# Altium integrated library Renesas Microcontroller H8.IntLib: 489 symbols (part 18 of 25)
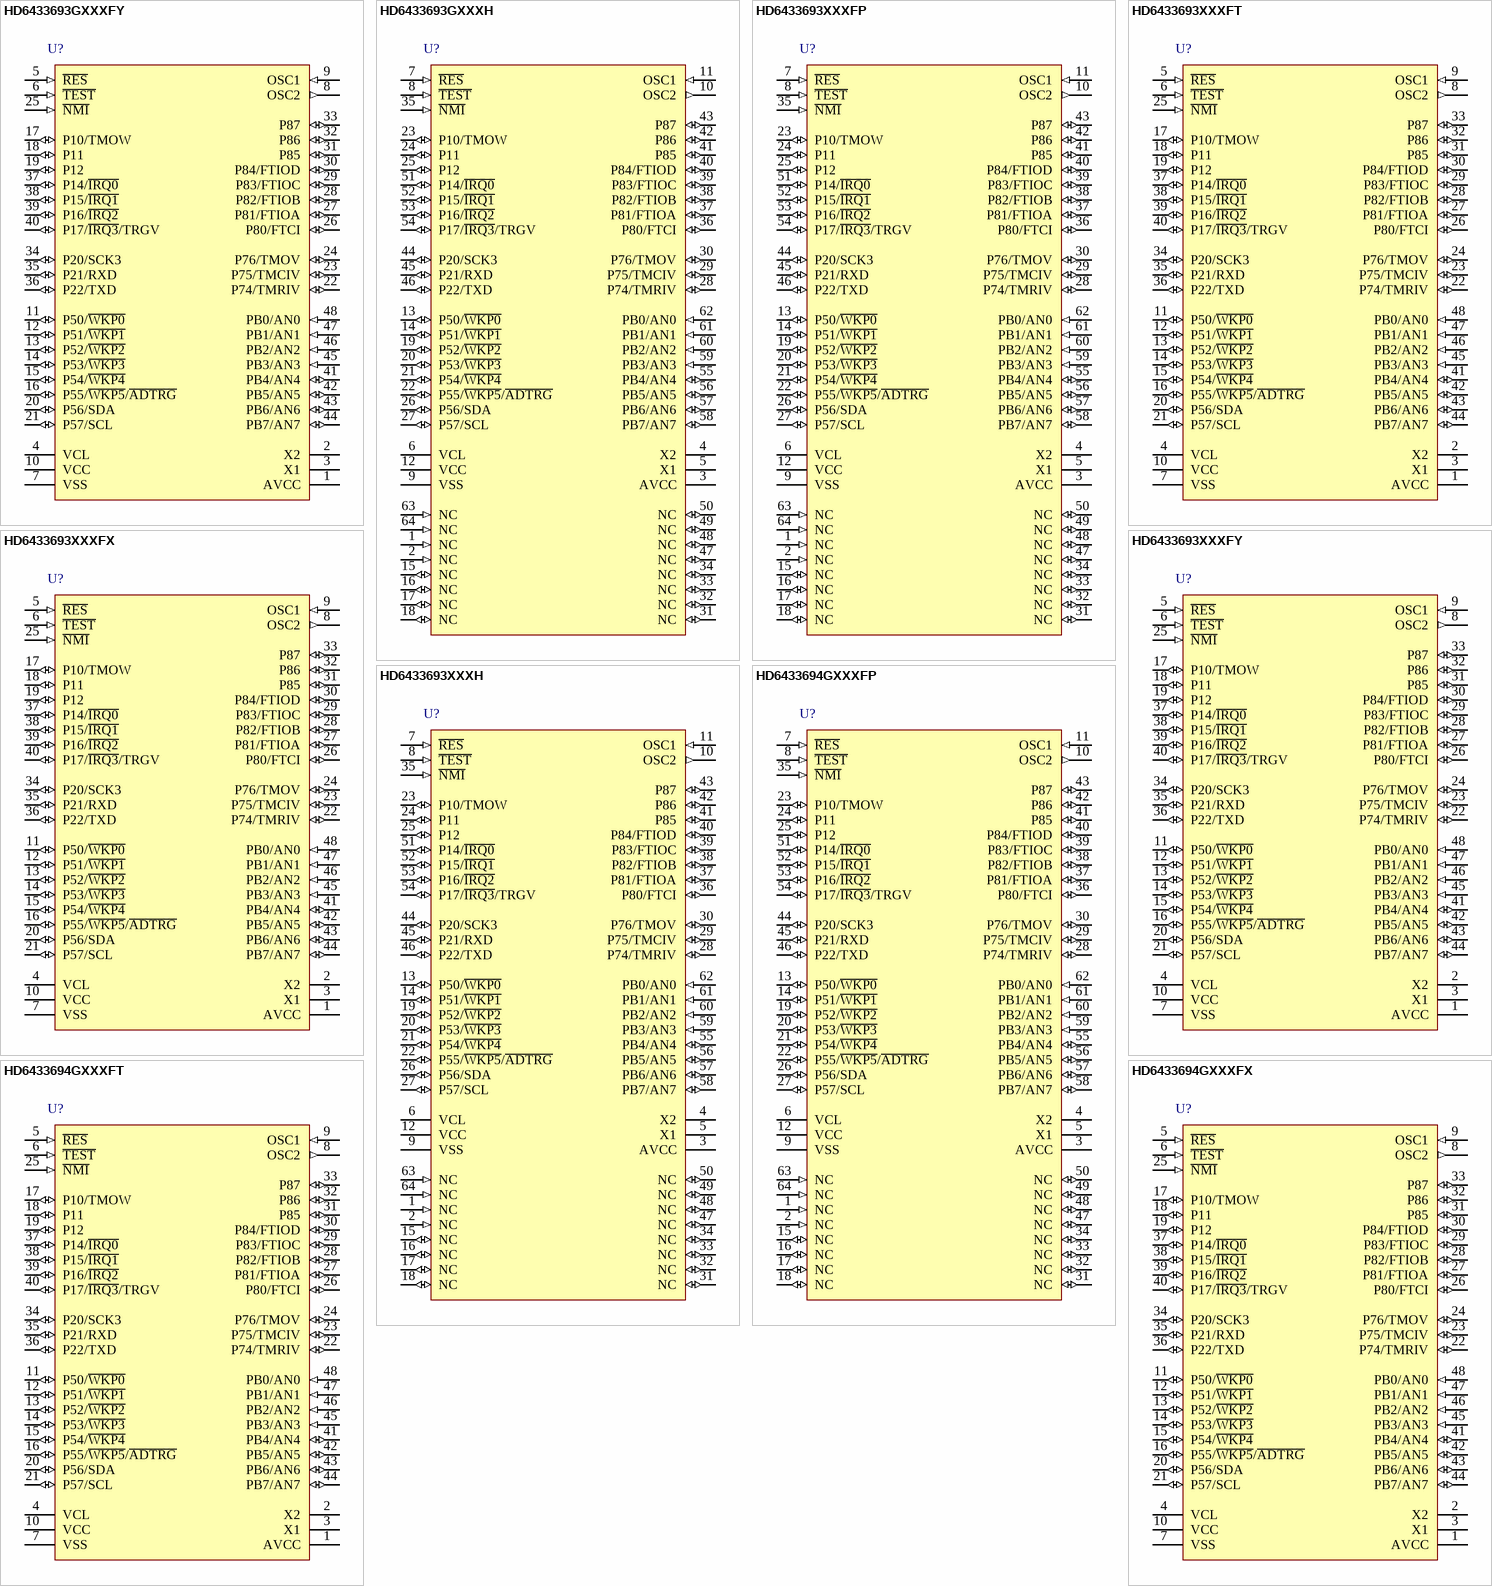
[diagram p105: symbols HD6433693GXXXFY to HD6433694GXXXFX]

## HD6433693GXXXH
designator U?
H8 Family 32/16-bit CISC, H8/300H Tiny, 24K ROM, 1K RAM, 1 to 10MHz, 2.7 to 5.5V, 64-Pin QFP; Published: 28-Aug-2009; DatasheetVersion: Rev.5.00, Nov-2005; PackageVersion: Sep-2005; PackageReference: PRQP0064GB-A; Publisher: Altium Limited; PackageDescription: 64-Pin Plastic Quad Flat Pack, 14 x 14 x 2.7 mm Body, 0.8 mm Pitch; Code_JEITA: P-QFP64-14x14-0.80; ComponentLink1Description: Manufacturer Link; ComponentLink1URL: http://sg.renesas.com/fmwk.jsp?cnt=h8_family_landing.jsp&fp=/products/mpumcu/h8_family/; ComponentLink2Description: Datasheet; ComponentLink2URL: http://documentation.renesas.com/eng/products/mpumcu/rej09b0028_h83694.pdf; ComponentLink3Description: Packaging Specification; ComponentLink3URL: http://sg.renesas.com/media/products/common_info/package/pdf/ic/code/prqp0064gb_a.pdf
footprint PRQP0064GB-A_N (QFP, 64-Leads, Body 14x14mm, Pitch 0.8mm, IPC Medium Density)
footprint PRQP0064GB-A_L (QFP, 64-Leads, Body 14x14mm, Pitch 0.8mm, IPC High Density)
footprint PRQP0064GB-A_M (QFP, 64-Leads, Body 14x14mm, Pitch 0.8mm, IPC Low Density)
pins: 1 NC (in), 2 NC (in), 3 AVCC (power), 4 X2, 5 X1, 6 VCL (power), 7 ~{RES} (in), 8 ~{TEST} (in), 9 VSS (power), 10 OSC2 (out), 11 OSC1 (in), 12 VCC (power), 13 P50/~{WKP0} (io), 14 P51/~{WKP1} (io), 15 NC (io), 16 NC (io), 17 NC (io), 18 NC (io), 19 P52/~{WKP2} (io), 20 P53/~{WKP3} (io), 21 P54/~{WKP4} (io), 22 P55/~{WKP5}/~{ADTRG} (io), 23 P10/TMOW (io), 24 P11 (io), 25 P12 (io), 26 P56/SDA (io), 27 P57/SCL (io), 28 P74/TMRIV (io), 29 P75/TMCIV (io), 30 P76/TMOV (io), 31 NC (io), 32 NC (io), 33 NC (io), 34 NC (io), 35 ~{NMI} (in), 36 P80/FTCI (io), 37 P81/FTIOA (io), 38 P82/FTIOB (io), 39 P83/FTIOC (io), 40 P84/FTIOD (io), 41 P85 (io), 42 P86 (io), 43 P87 (io), 44 P20/SCK3 (io), 45 P21/RXD (io), 46 P22/TXD (io), 47 NC (io), 48 NC (io), 49 NC (io), 50 NC (io), 51 P14/~{IRQ0} (io), 52 P15/~{IRQ1} (io), 53 P16/~{IRQ2} (io), 54 P17/~{IRQ3}/TRGV (io), 55 PB4/AN4 (io), 56 PB5/AN5 (io), 57 PB6/AN6 (io), 58 PB7/AN7 (io), 59 PB3/AN3 (in), 60 PB2/AN2 (in), 61 PB1/AN1 (in), 62 PB0/AN0 (in), 63 NC (in), 64 NC (in)

## HD6433693XXXFP
designator U?
H8 Family 32/16-bit CISC, H8/300H Tiny, 24K ROM, 1K RAM, 1 to 10MHz, 2.7 to 5.5V, 64-Pin QFP; Published: 28-Aug-2009; DatasheetVersion: Rev.5.00, Nov-2005; PackageVersion: Sep-2005; PackageReference: PLQP0064KC-A; Publisher: Altium Limited; PackageDescription: 64-Pin Plastic Low Profile QFP, 10 x 10 x 1.45 mm Body, 0.5 mm Pitch; Code_JEITA: P-LQFP64-10x10-0.50; Code_IPC: SQFP50P1200X1200-64; ComponentLink1Description: Manufacturer Link; ComponentLink1URL: http://sg.renesas.com/fmwk.jsp?cnt=h8_family_landing.jsp&fp=/products/mpumcu/h8_family/; ComponentLink2Description: Datasheet; ComponentLink2URL: http://documentation.renesas.com/eng/products/mpumcu/rej09b0028_h83694.pdf; ComponentLink3Description: Packaging Specification; ComponentLink3URL: http://sg.renesas.com/media/products/common_info/package/pdf/ic/code/plqp0064kc_a.pdf
footprint PLQP0064KC-A_N (Shrink QFP, 64-Leads, Body 10x10mm, Pitch 0.5mm, IPC Medium Density)
footprint PLQP0064KC-A_L (Shrink QFP, 64-Leads, Body 10x10mm, Pitch 0.5mm, IPC High Density)
footprint PLQP0064KC-A_M (Shrink QFP, 64-Leads, Body 10x10mm, Pitch 0.5mm, IPC Low Density)
pins: 1 NC (in), 2 NC (in), 3 AVCC (power), 4 X2, 5 X1, 6 VCL (power), 7 ~{RES} (in), 8 ~{TEST} (in), 9 VSS (power), 10 OSC2 (out), 11 OSC1 (in), 12 VCC (power), 13 P50/~{WKP0} (io), 14 P51/~{WKP1} (io), 15 NC (io), 16 NC (io), 17 NC (io), 18 NC (io), 19 P52/~{WKP2} (io), 20 P53/~{WKP3} (io), 21 P54/~{WKP4} (io), 22 P55/~{WKP5}/~{ADTRG} (io), 23 P10/TMOW (io), 24 P11 (io), 25 P12 (io), 26 P56/SDA (io), 27 P57/SCL (io), 28 P74/TMRIV (io), 29 P75/TMCIV (io), 30 P76/TMOV (io), 31 NC (io), 32 NC (io), 33 NC (io), 34 NC (io), 35 ~{NMI} (in), 36 P80/FTCI (io), 37 P81/FTIOA (io), 38 P82/FTIOB (io), 39 P83/FTIOC (io), 40 P84/FTIOD (io), 41 P85 (io), 42 P86 (io), 43 P87 (io), 44 P20/SCK3 (io), 45 P21/RXD (io), 46 P22/TXD (io), 47 NC (io), 48 NC (io), 49 NC (io), 50 NC (io), 51 P14/~{IRQ0} (io), 52 P15/~{IRQ1} (io), 53 P16/~{IRQ2} (io), 54 P17/~{IRQ3}/TRGV (io), 55 PB4/AN4 (io), 56 PB5/AN5 (io), 57 PB6/AN6 (io), 58 PB7/AN7 (io), 59 PB3/AN3 (in), 60 PB2/AN2 (in), 61 PB1/AN1 (in), 62 PB0/AN0 (in), 63 NC (in), 64 NC (in)

## HD6433693XXXFT
designator U?
H8 Family 32/16-bit CISC, H8/300H Tiny, 24K ROM, 1K RAM, 1 to 10MHz, 2.7 to 5.5V, 48-Pin QFN; Published: 28-Aug-2009; DatasheetVersion: Rev.5.00, Nov-2005; PackageVersion: Sep-2005; PackageReference: PVQN0048KA-A; Publisher: Altium Limited; PackageDescription: 48-Pin Plastic Very Thin QFN, 7 x 7 X 0.9 mm Body, 0.5 mm Pitch; Code_JEITA: P-VQFN48-7x7-0.50; ComponentLink1Description: Manufacturer Link; ComponentLink1URL: http://sg.renesas.com/fmwk.jsp?cnt=h8_family_landing.jsp&fp=/products/mpumcu/h8_family/; ComponentLink2Description: Datasheet; ComponentLink2URL: http://documentation.renesas.com/eng/products/mpumcu/rej09b0028_h83694.pdf; ComponentLink3Description: Packaging Specification; ComponentLink3URL: http://sg.renesas.com/media/products/common_info/package/pdf/ic/code/pvqn0048ka_a.pdf
footprint PVQN0048KA-A_N (QFN, 48-Leads, Body 7x7mm, Pitch 0.5mm, IPC Medium Density)
footprint PVQN0048KA-A_L (QFN, 48-Leads, Body 7x7mm, Pitch 0.5mm, IPC High Density)
footprint PVQN0048KA-A_M (QFN, 48-Leads, Body 7x7mm, Pitch 0.5mm, IPC Low Density)
pins: 1 AVCC (power), 2 X2, 3 X1, 4 VCL (power), 5 ~{RES} (in), 6 ~{TEST} (in), 7 VSS (power), 8 OSC2 (out), 9 OSC1 (in), 10 VCC (power), 11 P50/~{WKP0} (io), 12 P51/~{WKP1} (io), 13 P52/~{WKP2} (io), 14 P53/~{WKP3} (io), 15 P54/~{WKP4} (io), 16 P55/~{WKP5}/~{ADTRG} (io), 17 P10/TMOW (io), 18 P11 (io), 19 P12 (io), 20 P56/SDA (io), 21 P57/SCL (io), 22 P74/TMRIV (io), 23 P75/TMCIV (io), 24 P76/TMOV (io), 25 ~{NMI} (in), 26 P80/FTCI (io), 27 P81/FTIOA (io), 28 P82/FTIOB (io), 29 P83/FTIOC (io), 30 P84/FTIOD (io), 31 P85 (io), 32 P86 (io), 33 P87 (io), 34 P20/SCK3 (io), 35 P21/RXD (io), 36 P22/TXD (io), 37 P14/~{IRQ0} (io), 38 P15/~{IRQ1} (io), 39 P16/~{IRQ2} (io), 40 P17/~{IRQ3}/TRGV (io), 41 PB4/AN4 (io), 42 PB5/AN5 (io), 43 PB6/AN6 (io), 44 PB7/AN7 (io), 45 PB3/AN3 (in), 46 PB2/AN2 (in), 47 PB1/AN1 (in), 48 PB0/AN0 (in)

## HD6433693XXXFX
designator U?
H8 Family 32/16-bit CISC, H8/300H Tiny, 24K ROM, 1K RAM, 1 to 10MHz, 2.7 to 5.5V, 48-Pin QFP; Published: 28-Aug-2009; DatasheetVersion: Rev.5.00, Nov-2005; PackageVersion: Sep-2005; PackageReference: PLQP0048JA-A; Publisher: Altium Limited; PackageDescription: 48-Pin Plastic Low Profile QFP, 10 x 10 x 1.45 mm Body, 0.65 mm Pitch; Code_JEITA: P-LQFP48-10x10-0.65; ComponentLink1Description: Manufacturer Link; ComponentLink1URL: http://sg.renesas.com/fmwk.jsp?cnt=h8_family_landing.jsp&fp=/products/mpumcu/h8_family/; ComponentLink2Description: Datasheet; ComponentLink2URL: http://documentation.renesas.com/eng/products/mpumcu/rej09b0028_h83694.pdf; ComponentLink3Description: Packaging Specification; ComponentLink3URL: http://sg.renesas.com/media/products/common_info/package/pdf/ic/code/plqp0048ja_a.pdf
footprint PLQP0048JA-A_N (QFP, 48-Leads, Body 10x10mm, Pitch 0.65mm, IPC Medium Density)
footprint PLQP0048JA-A_L (QFP, 48-Leads, Body 10x10mm, Pitch 0.65mm, IPC High Density)
footprint PLQP0048JA-A_M (QFP, 48-Leads, Body 10x10mm, Pitch 0.65mm, IPC Low Density)
pins: 1 AVCC (power), 2 X2, 3 X1, 4 VCL (power), 5 ~{RES} (in), 6 ~{TEST} (in), 7 VSS (power), 8 OSC2 (out), 9 OSC1 (in), 10 VCC (power), 11 P50/~{WKP0} (io), 12 P51/~{WKP1} (io), 13 P52/~{WKP2} (io), 14 P53/~{WKP3} (io), 15 P54/~{WKP4} (io), 16 P55/~{WKP5}/~{ADTRG} (io), 17 P10/TMOW (io), 18 P11 (io), 19 P12 (io), 20 P56/SDA (io), 21 P57/SCL (io), 22 P74/TMRIV (io), 23 P75/TMCIV (io), 24 P76/TMOV (io), 25 ~{NMI} (in), 26 P80/FTCI (io), 27 P81/FTIOA (io), 28 P82/FTIOB (io), 29 P83/FTIOC (io), 30 P84/FTIOD (io), 31 P85 (io), 32 P86 (io), 33 P87 (io), 34 P20/SCK3 (io), 35 P21/RXD (io), 36 P22/TXD (io), 37 P14/~{IRQ0} (io), 38 P15/~{IRQ1} (io), 39 P16/~{IRQ2} (io), 40 P17/~{IRQ3}/TRGV (io), 41 PB4/AN4 (io), 42 PB5/AN5 (io), 43 PB6/AN6 (io), 44 PB7/AN7 (io), 45 PB3/AN3 (in), 46 PB2/AN2 (in), 47 PB1/AN1 (in), 48 PB0/AN0 (in)

## HD6433693XXXFY
designator U?
H8 Family 32/16-bit CISC, H8/300H Tiny, 24K ROM, 1K RAM, 1 to 10MHz, 2.7 to 5.5V, 48-Pin QFP; Published: 28-Aug-2009; DatasheetVersion: Rev.5.00, Nov-2005; PackageVersion: Sep-2005; PackageReference: PLQP0048KC-A; Publisher: Altium Limited; PackageDescription: 48-Pin Plastic Low Profile QFP, 7 x 7 x 1.4 mm Body, 0.5 mm Pitch; Code_JEITA: P-LQFP48-7x7-0.50; Code_IPC: SQFP50P900X900-48; ComponentLink1Description: Manufacturer Link; ComponentLink1URL: http://sg.renesas.com/fmwk.jsp?cnt=h8_family_landing.jsp&fp=/products/mpumcu/h8_family/; ComponentLink2Description: Datasheet; ComponentLink2URL: http://documentation.renesas.com/eng/products/mpumcu/rej09b0028_h83694.pdf; ComponentLink3Description: Packaging Specification; ComponentLink3URL: http://sg.renesas.com/media/products/common_info/package/pdf/ic/code/plqp0048kc_a.pdf
footprint PLQP0048KC-A_N (Shrink QFP, 48-Leads, Body 7x7mm, Pitch 0.5mm, IPC Medium Density)
footprint PLQP0048KC-A_L (Shrink QFP, 48-Leads, Body 7x7mm, Pitch 0.5mm, IPC High Density)
footprint PLQP0048KC-A_M (Shrink QFP, 48-Leads, Body 7x7mm, Pitch 0.5mm, IPC Low Density)
pins: 1 AVCC (power), 2 X2, 3 X1, 4 VCL (power), 5 ~{RES} (in), 6 ~{TEST} (in), 7 VSS (power), 8 OSC2 (out), 9 OSC1 (in), 10 VCC (power), 11 P50/~{WKP0} (io), 12 P51/~{WKP1} (io), 13 P52/~{WKP2} (io), 14 P53/~{WKP3} (io), 15 P54/~{WKP4} (io), 16 P55/~{WKP5}/~{ADTRG} (io), 17 P10/TMOW (io), 18 P11 (io), 19 P12 (io), 20 P56/SDA (io), 21 P57/SCL (io), 22 P74/TMRIV (io), 23 P75/TMCIV (io), 24 P76/TMOV (io), 25 ~{NMI} (in), 26 P80/FTCI (io), 27 P81/FTIOA (io), 28 P82/FTIOB (io), 29 P83/FTIOC (io), 30 P84/FTIOD (io), 31 P85 (io), 32 P86 (io), 33 P87 (io), 34 P20/SCK3 (io), 35 P21/RXD (io), 36 P22/TXD (io), 37 P14/~{IRQ0} (io), 38 P15/~{IRQ1} (io), 39 P16/~{IRQ2} (io), 40 P17/~{IRQ3}/TRGV (io), 41 PB4/AN4 (io), 42 PB5/AN5 (io), 43 PB6/AN6 (io), 44 PB7/AN7 (io), 45 PB3/AN3 (in), 46 PB2/AN2 (in), 47 PB1/AN1 (in), 48 PB0/AN0 (in)

## HD6433693XXXH
designator U?
H8 Family 32/16-bit CISC, H8/300H Tiny, 24K ROM, 1K RAM, 1 to 10MHz, 2.7 to 5.5V, 64-Pin QFP; Published: 28-Aug-2009; DatasheetVersion: Rev.5.00, Nov-2005; PackageVersion: Sep-2005; PackageReference: PRQP0064GB-A; Publisher: Altium Limited; PackageDescription: 64-Pin Plastic Quad Flat Pack, 14 x 14 x 2.7 mm Body, 0.8 mm Pitch; Code_JEITA: P-QFP64-14x14-0.80; ComponentLink1Description: Manufacturer Link; ComponentLink1URL: http://sg.renesas.com/fmwk.jsp?cnt=h8_family_landing.jsp&fp=/products/mpumcu/h8_family/; ComponentLink2Description: Datasheet; ComponentLink2URL: http://documentation.renesas.com/eng/products/mpumcu/rej09b0028_h83694.pdf; ComponentLink3Description: Packaging Specification; ComponentLink3URL: http://sg.renesas.com/media/products/common_info/package/pdf/ic/code/prqp0064gb_a.pdf
footprint PRQP0064GB-A_N (QFP, 64-Leads, Body 14x14mm, Pitch 0.8mm, IPC Medium Density)
footprint PRQP0064GB-A_L (QFP, 64-Leads, Body 14x14mm, Pitch 0.8mm, IPC High Density)
footprint PRQP0064GB-A_M (QFP, 64-Leads, Body 14x14mm, Pitch 0.8mm, IPC Low Density)
pins: 1 NC (in), 2 NC (in), 3 AVCC (power), 4 X2, 5 X1, 6 VCL (power), 7 ~{RES} (in), 8 ~{TEST} (in), 9 VSS (power), 10 OSC2 (out), 11 OSC1 (in), 12 VCC (power), 13 P50/~{WKP0} (io), 14 P51/~{WKP1} (io), 15 NC (io), 16 NC (io), 17 NC (io), 18 NC (io), 19 P52/~{WKP2} (io), 20 P53/~{WKP3} (io), 21 P54/~{WKP4} (io), 22 P55/~{WKP5}/~{ADTRG} (io), 23 P10/TMOW (io), 24 P11 (io), 25 P12 (io), 26 P56/SDA (io), 27 P57/SCL (io), 28 P74/TMRIV (io), 29 P75/TMCIV (io), 30 P76/TMOV (io), 31 NC (io), 32 NC (io), 33 NC (io), 34 NC (io), 35 ~{NMI} (in), 36 P80/FTCI (io), 37 P81/FTIOA (io), 38 P82/FTIOB (io), 39 P83/FTIOC (io), 40 P84/FTIOD (io), 41 P85 (io), 42 P86 (io), 43 P87 (io), 44 P20/SCK3 (io), 45 P21/RXD (io), 46 P22/TXD (io), 47 NC (io), 48 NC (io), 49 NC (io), 50 NC (io), 51 P14/~{IRQ0} (io), 52 P15/~{IRQ1} (io), 53 P16/~{IRQ2} (io), 54 P17/~{IRQ3}/TRGV (io), 55 PB4/AN4 (io), 56 PB5/AN5 (io), 57 PB6/AN6 (io), 58 PB7/AN7 (io), 59 PB3/AN3 (in), 60 PB2/AN2 (in), 61 PB1/AN1 (in), 62 PB0/AN0 (in), 63 NC (in), 64 NC (in)

## HD6433694GXXXFP
designator U?
H8 Family 32/16-bit CISC, H8/300H Tiny, 32K ROM, 1K RAM, 1 to 10MHz, 2.7 to 5.5V, 64-Pin QFP; Published: 28-Aug-2009; DatasheetVersion: Rev.5.00, Nov-2005; PackageVersion: Sep-2005; PackageReference: PLQP0064KC-A; Publisher: Altium Limited; PackageDescription: 64-Pin Plastic Low Profile QFP, 10 x 10 x 1.45 mm Body, 0.5 mm Pitch; Code_JEITA: P-LQFP64-10x10-0.50; Code_IPC: SQFP50P1200X1200-64; ComponentLink1Description: Manufacturer Link; ComponentLink1URL: http://sg.renesas.com/fmwk.jsp?cnt=h8_family_landing.jsp&fp=/products/mpumcu/h8_family/; ComponentLink2Description: Datasheet; ComponentLink2URL: http://documentation.renesas.com/eng/products/mpumcu/rej09b0028_h83694.pdf; ComponentLink3Description: Packaging Specification; ComponentLink3URL: http://sg.renesas.com/media/products/common_info/package/pdf/ic/code/plqp0064kc_a.pdf
footprint PLQP0064KC-A_N (Shrink QFP, 64-Leads, Body 10x10mm, Pitch 0.5mm, IPC Medium Density)
footprint PLQP0064KC-A_L (Shrink QFP, 64-Leads, Body 10x10mm, Pitch 0.5mm, IPC High Density)
footprint PLQP0064KC-A_M (Shrink QFP, 64-Leads, Body 10x10mm, Pitch 0.5mm, IPC Low Density)
pins: 1 NC (in), 2 NC (in), 3 AVCC (power), 4 X2, 5 X1, 6 VCL (power), 7 ~{RES} (in), 8 ~{TEST} (in), 9 VSS (power), 10 OSC2 (out), 11 OSC1 (in), 12 VCC (power), 13 P50/~{WKP0} (io), 14 P51/~{WKP1} (io), 15 NC (io), 16 NC (io), 17 NC (io), 18 NC (io), 19 P52/~{WKP2} (io), 20 P53/~{WKP3} (io), 21 P54/~{WKP4} (io), 22 P55/~{WKP5}/~{ADTRG} (io), 23 P10/TMOW (io), 24 P11 (io), 25 P12 (io), 26 P56/SDA (io), 27 P57/SCL (io), 28 P74/TMRIV (io), 29 P75/TMCIV (io), 30 P76/TMOV (io), 31 NC (io), 32 NC (io), 33 NC (io), 34 NC (io), 35 ~{NMI} (in), 36 P80/FTCI (io), 37 P81/FTIOA (io), 38 P82/FTIOB (io), 39 P83/FTIOC (io), 40 P84/FTIOD (io), 41 P85 (io), 42 P86 (io), 43 P87 (io), 44 P20/SCK3 (io), 45 P21/RXD (io), 46 P22/TXD (io), 47 NC (io), 48 NC (io), 49 NC (io), 50 NC (io), 51 P14/~{IRQ0} (io), 52 P15/~{IRQ1} (io), 53 P16/~{IRQ2} (io), 54 P17/~{IRQ3}/TRGV (io), 55 PB4/AN4 (io), 56 PB5/AN5 (io), 57 PB6/AN6 (io), 58 PB7/AN7 (io), 59 PB3/AN3 (in), 60 PB2/AN2 (in), 61 PB1/AN1 (in), 62 PB0/AN0 (in), 63 NC (in), 64 NC (in)

## HD6433694GXXXFT
designator U?
H8 Family 32/16-bit CISC, H8/300H Tiny, 32K ROM, 1K RAM, 1 to 10MHz, 2.7 to 5.5V, 48-Pin QFN; Published: 28-Aug-2009; DatasheetVersion: Rev.5.00, Nov-2005; PackageVersion: Sep-2005; PackageReference: PVQN0048KA-A; Publisher: Altium Limited; PackageDescription: 48-Pin Plastic Very Thin QFN, 7 x 7 X 0.9 mm Body, 0.5 mm Pitch; Code_JEITA: P-VQFN48-7x7-0.50; ComponentLink1Description: Manufacturer Link; ComponentLink1URL: http://sg.renesas.com/fmwk.jsp?cnt=h8_family_landing.jsp&fp=/products/mpumcu/h8_family/; ComponentLink2Description: Datasheet; ComponentLink2URL: http://documentation.renesas.com/eng/products/mpumcu/rej09b0028_h83694.pdf; ComponentLink3Description: Packaging Specification; ComponentLink3URL: http://sg.renesas.com/media/products/common_info/package/pdf/ic/code/pvqn0048ka_a.pdf
footprint PVQN0048KA-A_N (QFN, 48-Leads, Body 7x7mm, Pitch 0.5mm, IPC Medium Density)
footprint PVQN0048KA-A_L (QFN, 48-Leads, Body 7x7mm, Pitch 0.5mm, IPC High Density)
footprint PVQN0048KA-A_M (QFN, 48-Leads, Body 7x7mm, Pitch 0.5mm, IPC Low Density)
pins: 1 AVCC (power), 2 X2, 3 X1, 4 VCL (power), 5 ~{RES} (in), 6 ~{TEST} (in), 7 VSS (power), 8 OSC2 (out), 9 OSC1 (in), 10 VCC (power), 11 P50/~{WKP0} (io), 12 P51/~{WKP1} (io), 13 P52/~{WKP2} (io), 14 P53/~{WKP3} (io), 15 P54/~{WKP4} (io), 16 P55/~{WKP5}/~{ADTRG} (io), 17 P10/TMOW (io), 18 P11 (io), 19 P12 (io), 20 P56/SDA (io), 21 P57/SCL (io), 22 P74/TMRIV (io), 23 P75/TMCIV (io), 24 P76/TMOV (io), 25 ~{NMI} (in), 26 P80/FTCI (io), 27 P81/FTIOA (io), 28 P82/FTIOB (io), 29 P83/FTIOC (io), 30 P84/FTIOD (io), 31 P85 (io), 32 P86 (io), 33 P87 (io), 34 P20/SCK3 (io), 35 P21/RXD (io), 36 P22/TXD (io), 37 P14/~{IRQ0} (io), 38 P15/~{IRQ1} (io), 39 P16/~{IRQ2} (io), 40 P17/~{IRQ3}/TRGV (io), 41 PB4/AN4 (io), 42 PB5/AN5 (io), 43 PB6/AN6 (io), 44 PB7/AN7 (io), 45 PB3/AN3 (in), 46 PB2/AN2 (in), 47 PB1/AN1 (in), 48 PB0/AN0 (in)

## HD6433694GXXXFX
designator U?
H8 Family 32/16-bit CISC, H8/300H Tiny, 32K ROM, 1K RAM, 1 to 10MHz, 2.7 to 5.5V, 48-Pin QFP; Published: 28-Aug-2009; DatasheetVersion: Rev.5.00, Nov-2005; PackageVersion: Sep-2005; PackageReference: PLQP0048JA-A; Publisher: Altium Limited; PackageDescription: 48-Pin Plastic Low Profile QFP, 10 x 10 x 1.45 mm Body, 0.65 mm Pitch; Code_JEITA: P-LQFP48-10x10-0.65; ComponentLink1Description: Manufacturer Link; ComponentLink1URL: http://sg.renesas.com/fmwk.jsp?cnt=h8_family_landing.jsp&fp=/products/mpumcu/h8_family/; ComponentLink2Description: Datasheet; ComponentLink2URL: http://documentation.renesas.com/eng/products/mpumcu/rej09b0028_h83694.pdf; ComponentLink3Description: Packaging Specification; ComponentLink3URL: http://sg.renesas.com/media/products/common_info/package/pdf/ic/code/plqp0048ja_a.pdf
footprint PLQP0048JA-A_N (QFP, 48-Leads, Body 10x10mm, Pitch 0.65mm, IPC Medium Density)
footprint PLQP0048JA-A_L (QFP, 48-Leads, Body 10x10mm, Pitch 0.65mm, IPC High Density)
footprint PLQP0048JA-A_M (QFP, 48-Leads, Body 10x10mm, Pitch 0.65mm, IPC Low Density)
pins: 1 AVCC (power), 2 X2, 3 X1, 4 VCL (power), 5 ~{RES} (in), 6 ~{TEST} (in), 7 VSS (power), 8 OSC2 (out), 9 OSC1 (in), 10 VCC (power), 11 P50/~{WKP0} (io), 12 P51/~{WKP1} (io), 13 P52/~{WKP2} (io), 14 P53/~{WKP3} (io), 15 P54/~{WKP4} (io), 16 P55/~{WKP5}/~{ADTRG} (io), 17 P10/TMOW (io), 18 P11 (io), 19 P12 (io), 20 P56/SDA (io), 21 P57/SCL (io), 22 P74/TMRIV (io), 23 P75/TMCIV (io), 24 P76/TMOV (io), 25 ~{NMI} (in), 26 P80/FTCI (io), 27 P81/FTIOA (io), 28 P82/FTIOB (io), 29 P83/FTIOC (io), 30 P84/FTIOD (io), 31 P85 (io), 32 P86 (io), 33 P87 (io), 34 P20/SCK3 (io), 35 P21/RXD (io), 36 P22/TXD (io), 37 P14/~{IRQ0} (io), 38 P15/~{IRQ1} (io), 39 P16/~{IRQ2} (io), 40 P17/~{IRQ3}/TRGV (io), 41 PB4/AN4 (io), 42 PB5/AN5 (io), 43 PB6/AN6 (io), 44 PB7/AN7 (io), 45 PB3/AN3 (in), 46 PB2/AN2 (in), 47 PB1/AN1 (in), 48 PB0/AN0 (in)

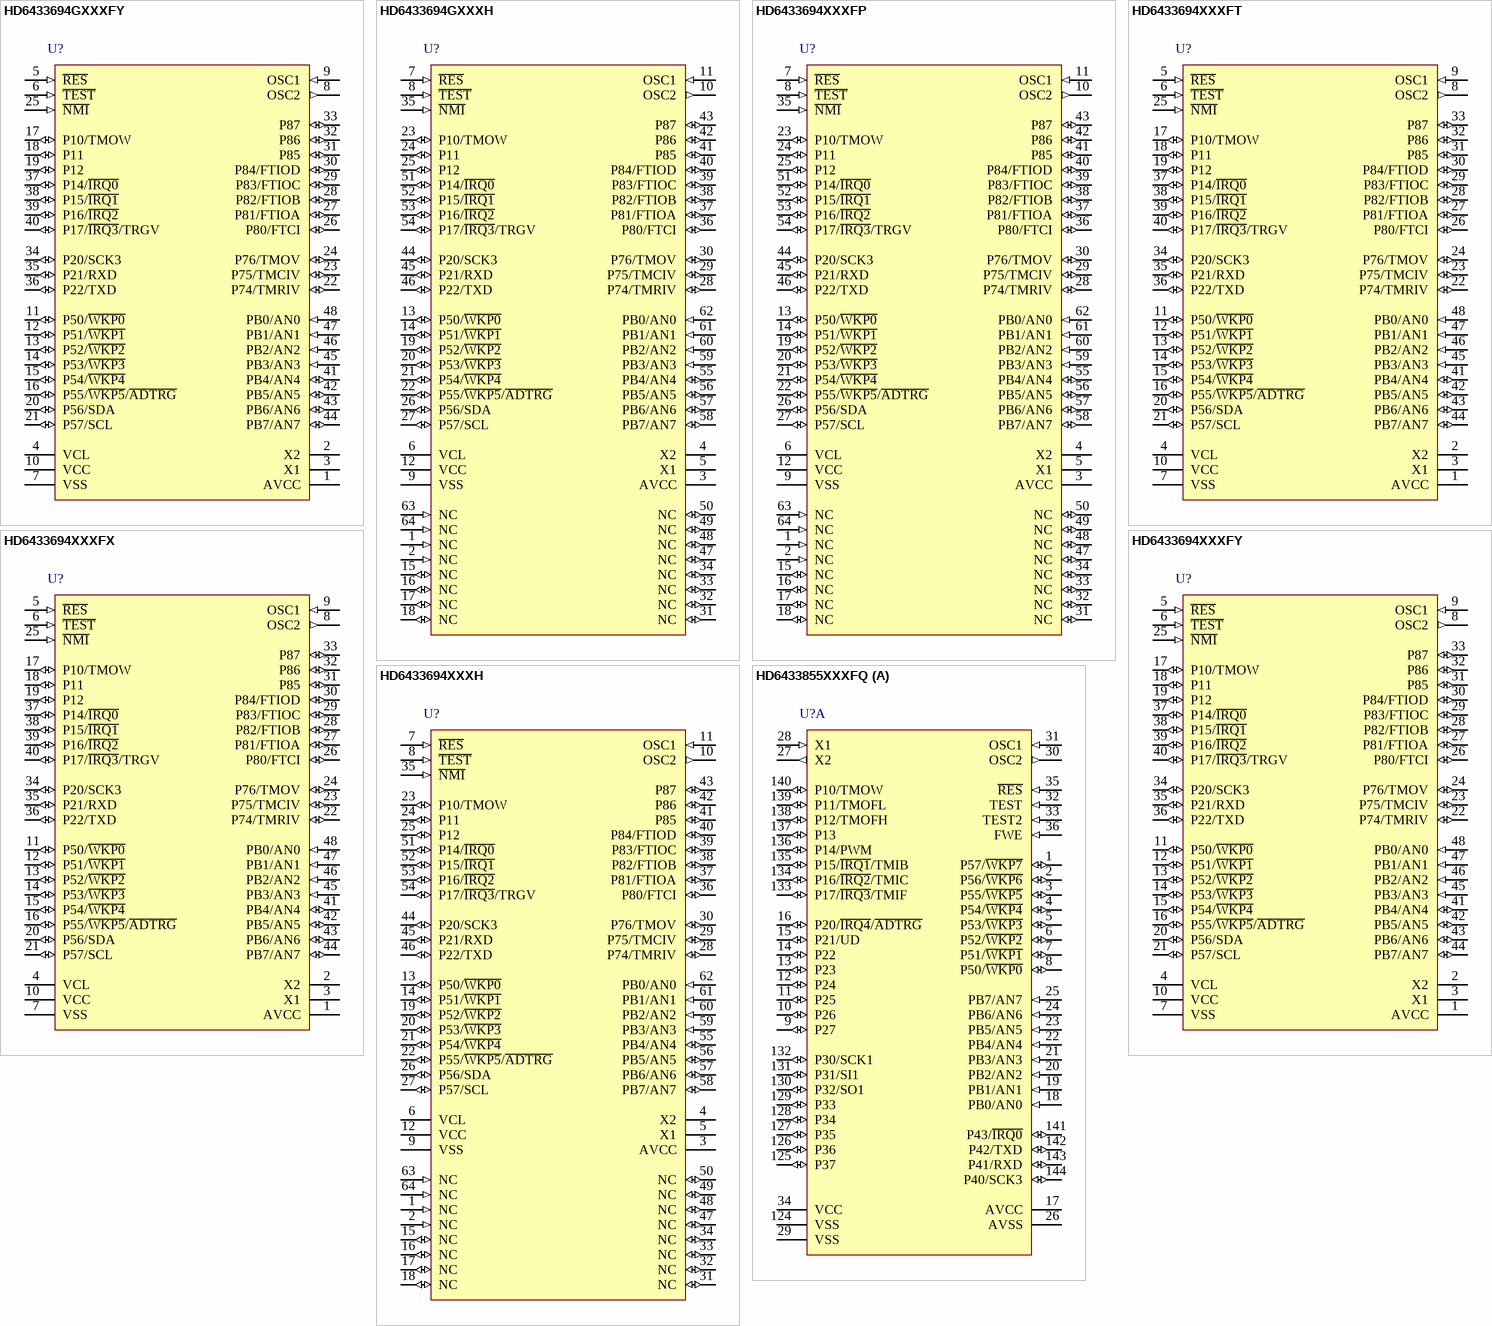
[diagram p63: symbols HD6433694GXXXFY to HD6433855XXXFQ]

## HD6433694GXXXFY
designator U?
H8 Family 32/16-bit CISC, H8/300H Tiny, 32K ROM, 1K RAM, 1 to 10MHz, 2.7 to 5.5V, 48-Pin QFP; Published: 28-Aug-2009; DatasheetVersion: Rev.5.00, Nov-2005; PackageVersion: Sep-2005; PackageReference: PLQP0048KC-A; Publisher: Altium Limited; PackageDescription: 48-Pin Plastic Low Profile QFP, 7 x 7 x 1.4 mm Body, 0.5 mm Pitch; Code_JEITA: P-LQFP48-7x7-0.50; Code_IPC: SQFP50P900X900-48; ComponentLink1Description: Manufacturer Link; ComponentLink1URL: http://sg.renesas.com/fmwk.jsp?cnt=h8_family_landing.jsp&fp=/products/mpumcu/h8_family/; ComponentLink2Description: Datasheet; ComponentLink2URL: http://documentation.renesas.com/eng/products/mpumcu/rej09b0028_h83694.pdf; ComponentLink3Description: Packaging Specification; ComponentLink3URL: http://sg.renesas.com/media/products/common_info/package/pdf/ic/code/plqp0048kc_a.pdf
footprint PLQP0048KC-A_N (Shrink QFP, 48-Leads, Body 7x7mm, Pitch 0.5mm, IPC Medium Density)
footprint PLQP0048KC-A_L (Shrink QFP, 48-Leads, Body 7x7mm, Pitch 0.5mm, IPC High Density)
footprint PLQP0048KC-A_M (Shrink QFP, 48-Leads, Body 7x7mm, Pitch 0.5mm, IPC Low Density)
pins: 1 AVCC (power), 2 X2, 3 X1, 4 VCL (power), 5 ~{RES} (in), 6 ~{TEST} (in), 7 VSS (power), 8 OSC2 (out), 9 OSC1 (in), 10 VCC (power), 11 P50/~{WKP0} (io), 12 P51/~{WKP1} (io), 13 P52/~{WKP2} (io), 14 P53/~{WKP3} (io), 15 P54/~{WKP4} (io), 16 P55/~{WKP5}/~{ADTRG} (io), 17 P10/TMOW (io), 18 P11 (io), 19 P12 (io), 20 P56/SDA (io), 21 P57/SCL (io), 22 P74/TMRIV (io), 23 P75/TMCIV (io), 24 P76/TMOV (io), 25 ~{NMI} (in), 26 P80/FTCI (io), 27 P81/FTIOA (io), 28 P82/FTIOB (io), 29 P83/FTIOC (io), 30 P84/FTIOD (io), 31 P85 (io), 32 P86 (io), 33 P87 (io), 34 P20/SCK3 (io), 35 P21/RXD (io), 36 P22/TXD (io), 37 P14/~{IRQ0} (io), 38 P15/~{IRQ1} (io), 39 P16/~{IRQ2} (io), 40 P17/~{IRQ3}/TRGV (io), 41 PB4/AN4 (io), 42 PB5/AN5 (io), 43 PB6/AN6 (io), 44 PB7/AN7 (io), 45 PB3/AN3 (in), 46 PB2/AN2 (in), 47 PB1/AN1 (in), 48 PB0/AN0 (in)

## HD6433694GXXXH
designator U?
H8 Family 32/16-bit CISC, H8/300H Tiny, 32K ROM, 1K RAM, 1 to 10MHz, 2.7 to 5.5V, 64-Pin QFP; Published: 28-Aug-2009; DatasheetVersion: Rev.5.00, Nov-2005; PackageVersion: Sep-2005; PackageReference: PRQP0064GB-A; Publisher: Altium Limited; PackageDescription: 64-Pin Plastic Quad Flat Pack, 14 x 14 x 2.7 mm Body, 0.8 mm Pitch; Code_JEITA: P-QFP64-14x14-0.80; ComponentLink1Description: Manufacturer Link; ComponentLink1URL: http://sg.renesas.com/fmwk.jsp?cnt=h8_family_landing.jsp&fp=/products/mpumcu/h8_family/; ComponentLink2Description: Datasheet; ComponentLink2URL: http://documentation.renesas.com/eng/products/mpumcu/rej09b0028_h83694.pdf; ComponentLink3Description: Packaging Specification; ComponentLink3URL: http://sg.renesas.com/media/products/common_info/package/pdf/ic/code/prqp0064gb_a.pdf
footprint PRQP0064GB-A_N (QFP, 64-Leads, Body 14x14mm, Pitch 0.8mm, IPC Medium Density)
footprint PRQP0064GB-A_L (QFP, 64-Leads, Body 14x14mm, Pitch 0.8mm, IPC High Density)
footprint PRQP0064GB-A_M (QFP, 64-Leads, Body 14x14mm, Pitch 0.8mm, IPC Low Density)
pins: 1 NC (in), 2 NC (in), 3 AVCC (power), 4 X2, 5 X1, 6 VCL (power), 7 ~{RES} (in), 8 ~{TEST} (in), 9 VSS (power), 10 OSC2 (out), 11 OSC1 (in), 12 VCC (power), 13 P50/~{WKP0} (io), 14 P51/~{WKP1} (io), 15 NC (io), 16 NC (io), 17 NC (io), 18 NC (io), 19 P52/~{WKP2} (io), 20 P53/~{WKP3} (io), 21 P54/~{WKP4} (io), 22 P55/~{WKP5}/~{ADTRG} (io), 23 P10/TMOW (io), 24 P11 (io), 25 P12 (io), 26 P56/SDA (io), 27 P57/SCL (io), 28 P74/TMRIV (io), 29 P75/TMCIV (io), 30 P76/TMOV (io), 31 NC (io), 32 NC (io), 33 NC (io), 34 NC (io), 35 ~{NMI} (in), 36 P80/FTCI (io), 37 P81/FTIOA (io), 38 P82/FTIOB (io), 39 P83/FTIOC (io), 40 P84/FTIOD (io), 41 P85 (io), 42 P86 (io), 43 P87 (io), 44 P20/SCK3 (io), 45 P21/RXD (io), 46 P22/TXD (io), 47 NC (io), 48 NC (io), 49 NC (io), 50 NC (io), 51 P14/~{IRQ0} (io), 52 P15/~{IRQ1} (io), 53 P16/~{IRQ2} (io), 54 P17/~{IRQ3}/TRGV (io), 55 PB4/AN4 (io), 56 PB5/AN5 (io), 57 PB6/AN6 (io), 58 PB7/AN7 (io), 59 PB3/AN3 (in), 60 PB2/AN2 (in), 61 PB1/AN1 (in), 62 PB0/AN0 (in), 63 NC (in), 64 NC (in)

## HD6433694XXXFP
designator U?
H8 Family 32/16-bit CISC, H8/300H Tiny, 32K ROM, 1K RAM, 1 to 10MHz, 2.7 to 5.5V, 64-Pin QFP; Published: 28-Aug-2009; DatasheetVersion: Rev.5.00, Nov-2005; PackageVersion: Sep-2005; PackageReference: PLQP0064KC-A; Publisher: Altium Limited; PackageDescription: 64-Pin Plastic Low Profile QFP, 10 x 10 x 1.45 mm Body, 0.5 mm Pitch; Code_JEITA: P-LQFP64-10x10-0.50; Code_IPC: SQFP50P1200X1200-64; ComponentLink1Description: Manufacturer Link; ComponentLink1URL: http://sg.renesas.com/fmwk.jsp?cnt=h8_family_landing.jsp&fp=/products/mpumcu/h8_family/; ComponentLink2Description: Datasheet; ComponentLink2URL: http://documentation.renesas.com/eng/products/mpumcu/rej09b0028_h83694.pdf; ComponentLink3Description: Packaging Specification; ComponentLink3URL: http://sg.renesas.com/media/products/common_info/package/pdf/ic/code/plqp0064kc_a.pdf
footprint PLQP0064KC-A_N (Shrink QFP, 64-Leads, Body 10x10mm, Pitch 0.5mm, IPC Medium Density)
footprint PLQP0064KC-A_L (Shrink QFP, 64-Leads, Body 10x10mm, Pitch 0.5mm, IPC High Density)
footprint PLQP0064KC-A_M (Shrink QFP, 64-Leads, Body 10x10mm, Pitch 0.5mm, IPC Low Density)
pins: 1 NC (in), 2 NC (in), 3 AVCC (power), 4 X2, 5 X1, 6 VCL (power), 7 ~{RES} (in), 8 ~{TEST} (in), 9 VSS (power), 10 OSC2 (out), 11 OSC1 (in), 12 VCC (power), 13 P50/~{WKP0} (io), 14 P51/~{WKP1} (io), 15 NC (io), 16 NC (io), 17 NC (io), 18 NC (io), 19 P52/~{WKP2} (io), 20 P53/~{WKP3} (io), 21 P54/~{WKP4} (io), 22 P55/~{WKP5}/~{ADTRG} (io), 23 P10/TMOW (io), 24 P11 (io), 25 P12 (io), 26 P56/SDA (io), 27 P57/SCL (io), 28 P74/TMRIV (io), 29 P75/TMCIV (io), 30 P76/TMOV (io), 31 NC (io), 32 NC (io), 33 NC (io), 34 NC (io), 35 ~{NMI} (in), 36 P80/FTCI (io), 37 P81/FTIOA (io), 38 P82/FTIOB (io), 39 P83/FTIOC (io), 40 P84/FTIOD (io), 41 P85 (io), 42 P86 (io), 43 P87 (io), 44 P20/SCK3 (io), 45 P21/RXD (io), 46 P22/TXD (io), 47 NC (io), 48 NC (io), 49 NC (io), 50 NC (io), 51 P14/~{IRQ0} (io), 52 P15/~{IRQ1} (io), 53 P16/~{IRQ2} (io), 54 P17/~{IRQ3}/TRGV (io), 55 PB4/AN4 (io), 56 PB5/AN5 (io), 57 PB6/AN6 (io), 58 PB7/AN7 (io), 59 PB3/AN3 (in), 60 PB2/AN2 (in), 61 PB1/AN1 (in), 62 PB0/AN0 (in), 63 NC (in), 64 NC (in)

## HD6433694XXXFT
designator U?
H8 Family 32/16-bit CISC, H8/300H Tiny, 32K ROM, 1K RAM, 1 to 10MHz, 2.7 to 5.5V, 48-Pin QFN; Published: 28-Aug-2009; DatasheetVersion: Rev.5.00, Nov-2005; PackageVersion: Sep-2005; PackageReference: PVQN0048KA-A; Publisher: Altium Limited; PackageDescription: 48-Pin Plastic Very Thin QFN, 7 x 7 X 0.9 mm Body, 0.5 mm Pitch; Code_JEITA: P-VQFN48-7x7-0.50; ComponentLink1Description: Manufacturer Link; ComponentLink1URL: http://sg.renesas.com/fmwk.jsp?cnt=h8_family_landing.jsp&fp=/products/mpumcu/h8_family/; ComponentLink2Description: Datasheet; ComponentLink2URL: http://documentation.renesas.com/eng/products/mpumcu/rej09b0028_h83694.pdf; ComponentLink3Description: Packaging Specification; ComponentLink3URL: http://sg.renesas.com/media/products/common_info/package/pdf/ic/code/pvqn0048ka_a.pdf
footprint PVQN0048KA-A_N (QFN, 48-Leads, Body 7x7mm, Pitch 0.5mm, IPC Medium Density)
footprint PVQN0048KA-A_L (QFN, 48-Leads, Body 7x7mm, Pitch 0.5mm, IPC High Density)
footprint PVQN0048KA-A_M (QFN, 48-Leads, Body 7x7mm, Pitch 0.5mm, IPC Low Density)
pins: 1 AVCC (power), 2 X2, 3 X1, 4 VCL (power), 5 ~{RES} (in), 6 ~{TEST} (in), 7 VSS (power), 8 OSC2 (out), 9 OSC1 (in), 10 VCC (power), 11 P50/~{WKP0} (io), 12 P51/~{WKP1} (io), 13 P52/~{WKP2} (io), 14 P53/~{WKP3} (io), 15 P54/~{WKP4} (io), 16 P55/~{WKP5}/~{ADTRG} (io), 17 P10/TMOW (io), 18 P11 (io), 19 P12 (io), 20 P56/SDA (io), 21 P57/SCL (io), 22 P74/TMRIV (io), 23 P75/TMCIV (io), 24 P76/TMOV (io), 25 ~{NMI} (in), 26 P80/FTCI (io), 27 P81/FTIOA (io), 28 P82/FTIOB (io), 29 P83/FTIOC (io), 30 P84/FTIOD (io), 31 P85 (io), 32 P86 (io), 33 P87 (io), 34 P20/SCK3 (io), 35 P21/RXD (io), 36 P22/TXD (io), 37 P14/~{IRQ0} (io), 38 P15/~{IRQ1} (io), 39 P16/~{IRQ2} (io), 40 P17/~{IRQ3}/TRGV (io), 41 PB4/AN4 (io), 42 PB5/AN5 (io), 43 PB6/AN6 (io), 44 PB7/AN7 (io), 45 PB3/AN3 (in), 46 PB2/AN2 (in), 47 PB1/AN1 (in), 48 PB0/AN0 (in)

## HD6433694XXXFX
designator U?
H8 Family 32/16-bit CISC, H8/300H Tiny, 32K ROM, 1K RAM, 1 to 10MHz, 2.7 to 5.5V, 48-Pin QFP; Published: 28-Aug-2009; DatasheetVersion: Rev.5.00, Nov-2005; PackageVersion: Sep-2005; PackageReference: PLQP0048JA-A; Publisher: Altium Limited; PackageDescription: 48-Pin Plastic Low Profile QFP, 10 x 10 x 1.45 mm Body, 0.65 mm Pitch; Code_JEITA: P-LQFP48-10x10-0.65; ComponentLink1Description: Manufacturer Link; ComponentLink1URL: http://sg.renesas.com/fmwk.jsp?cnt=h8_family_landing.jsp&fp=/products/mpumcu/h8_family/; ComponentLink2Description: Datasheet; ComponentLink2URL: http://documentation.renesas.com/eng/products/mpumcu/rej09b0028_h83694.pdf; ComponentLink3Description: Packaging Specification; ComponentLink3URL: http://sg.renesas.com/media/products/common_info/package/pdf/ic/code/plqp0048ja_a.pdf
footprint PLQP0048JA-A_N (QFP, 48-Leads, Body 10x10mm, Pitch 0.65mm, IPC Medium Density)
footprint PLQP0048JA-A_L (QFP, 48-Leads, Body 10x10mm, Pitch 0.65mm, IPC High Density)
footprint PLQP0048JA-A_M (QFP, 48-Leads, Body 10x10mm, Pitch 0.65mm, IPC Low Density)
pins: 1 AVCC (power), 2 X2, 3 X1, 4 VCL (power), 5 ~{RES} (in), 6 ~{TEST} (in), 7 VSS (power), 8 OSC2 (out), 9 OSC1 (in), 10 VCC (power), 11 P50/~{WKP0} (io), 12 P51/~{WKP1} (io), 13 P52/~{WKP2} (io), 14 P53/~{WKP3} (io), 15 P54/~{WKP4} (io), 16 P55/~{WKP5}/~{ADTRG} (io), 17 P10/TMOW (io), 18 P11 (io), 19 P12 (io), 20 P56/SDA (io), 21 P57/SCL (io), 22 P74/TMRIV (io), 23 P75/TMCIV (io), 24 P76/TMOV (io), 25 ~{NMI} (in), 26 P80/FTCI (io), 27 P81/FTIOA (io), 28 P82/FTIOB (io), 29 P83/FTIOC (io), 30 P84/FTIOD (io), 31 P85 (io), 32 P86 (io), 33 P87 (io), 34 P20/SCK3 (io), 35 P21/RXD (io), 36 P22/TXD (io), 37 P14/~{IRQ0} (io), 38 P15/~{IRQ1} (io), 39 P16/~{IRQ2} (io), 40 P17/~{IRQ3}/TRGV (io), 41 PB4/AN4 (io), 42 PB5/AN5 (io), 43 PB6/AN6 (io), 44 PB7/AN7 (io), 45 PB3/AN3 (in), 46 PB2/AN2 (in), 47 PB1/AN1 (in), 48 PB0/AN0 (in)

## HD6433694XXXFY
designator U?
H8 Family 32/16-bit CISC, H8/300H Tiny, 32K ROM, 1K RAM, 1 to 10MHz, 2.7 to 5.5V, 48-Pin QFP; Published: 28-Aug-2009; DatasheetVersion: Rev.5.00, Nov-2005; PackageVersion: Sep-2005; PackageReference: PLQP0048KC-A; Publisher: Altium Limited; PackageDescription: 48-Pin Plastic Low Profile QFP, 7 x 7 x 1.4 mm Body, 0.5 mm Pitch; Code_JEITA: P-LQFP48-7x7-0.50; Code_IPC: SQFP50P900X900-48; ComponentLink1Description: Manufacturer Link; ComponentLink1URL: http://sg.renesas.com/fmwk.jsp?cnt=h8_family_landing.jsp&fp=/products/mpumcu/h8_family/; ComponentLink2Description: Datasheet; ComponentLink2URL: http://documentation.renesas.com/eng/products/mpumcu/rej09b0028_h83694.pdf; ComponentLink3Description: Packaging Specification; ComponentLink3URL: http://sg.renesas.com/media/products/common_info/package/pdf/ic/code/plqp0048kc_a.pdf
footprint PLQP0048KC-A_N (Shrink QFP, 48-Leads, Body 7x7mm, Pitch 0.5mm, IPC Medium Density)
footprint PLQP0048KC-A_L (Shrink QFP, 48-Leads, Body 7x7mm, Pitch 0.5mm, IPC High Density)
footprint PLQP0048KC-A_M (Shrink QFP, 48-Leads, Body 7x7mm, Pitch 0.5mm, IPC Low Density)
pins: 1 AVCC (power), 2 X2, 3 X1, 4 VCL (power), 5 ~{RES} (in), 6 ~{TEST} (in), 7 VSS (power), 8 OSC2 (out), 9 OSC1 (in), 10 VCC (power), 11 P50/~{WKP0} (io), 12 P51/~{WKP1} (io), 13 P52/~{WKP2} (io), 14 P53/~{WKP3} (io), 15 P54/~{WKP4} (io), 16 P55/~{WKP5}/~{ADTRG} (io), 17 P10/TMOW (io), 18 P11 (io), 19 P12 (io), 20 P56/SDA (io), 21 P57/SCL (io), 22 P74/TMRIV (io), 23 P75/TMCIV (io), 24 P76/TMOV (io), 25 ~{NMI} (in), 26 P80/FTCI (io), 27 P81/FTIOA (io), 28 P82/FTIOB (io), 29 P83/FTIOC (io), 30 P84/FTIOD (io), 31 P85 (io), 32 P86 (io), 33 P87 (io), 34 P20/SCK3 (io), 35 P21/RXD (io), 36 P22/TXD (io), 37 P14/~{IRQ0} (io), 38 P15/~{IRQ1} (io), 39 P16/~{IRQ2} (io), 40 P17/~{IRQ3}/TRGV (io), 41 PB4/AN4 (io), 42 PB5/AN5 (io), 43 PB6/AN6 (io), 44 PB7/AN7 (io), 45 PB3/AN3 (in), 46 PB2/AN2 (in), 47 PB1/AN1 (in), 48 PB0/AN0 (in)

## HD6433694XXXH
designator U?
H8 Family 32/16-bit CISC, H8/300H Tiny, 32K ROM, 1K RAM, 1 to 10MHz, 2.7 to 5.5V, 64-Pin QFP; Published: 28-Aug-2009; DatasheetVersion: Rev.5.00, Nov-2005; PackageVersion: Sep-2005; PackageReference: PRQP0064GB-A; Publisher: Altium Limited; PackageDescription: 64-Pin Plastic Quad Flat Pack, 14 x 14 x 2.7 mm Body, 0.8 mm Pitch; Code_JEITA: P-QFP64-14x14-0.80; ComponentLink1Description: Manufacturer Link; ComponentLink1URL: http://sg.renesas.com/fmwk.jsp?cnt=h8_family_landing.jsp&fp=/products/mpumcu/h8_family/; ComponentLink2Description: Datasheet; ComponentLink2URL: http://documentation.renesas.com/eng/products/mpumcu/rej09b0028_h83694.pdf; ComponentLink3Description: Packaging Specification; ComponentLink3URL: http://sg.renesas.com/media/products/common_info/package/pdf/ic/code/prqp0064gb_a.pdf
footprint PRQP0064GB-A_N (QFP, 64-Leads, Body 14x14mm, Pitch 0.8mm, IPC Medium Density)
footprint PRQP0064GB-A_L (QFP, 64-Leads, Body 14x14mm, Pitch 0.8mm, IPC High Density)
footprint PRQP0064GB-A_M (QFP, 64-Leads, Body 14x14mm, Pitch 0.8mm, IPC Low Density)
pins: 1 NC (in), 2 NC (in), 3 AVCC (power), 4 X2, 5 X1, 6 VCL (power), 7 ~{RES} (in), 8 ~{TEST} (in), 9 VSS (power), 10 OSC2 (out), 11 OSC1 (in), 12 VCC (power), 13 P50/~{WKP0} (io), 14 P51/~{WKP1} (io), 15 NC (io), 16 NC (io), 17 NC (io), 18 NC (io), 19 P52/~{WKP2} (io), 20 P53/~{WKP3} (io), 21 P54/~{WKP4} (io), 22 P55/~{WKP5}/~{ADTRG} (io), 23 P10/TMOW (io), 24 P11 (io), 25 P12 (io), 26 P56/SDA (io), 27 P57/SCL (io), 28 P74/TMRIV (io), 29 P75/TMCIV (io), 30 P76/TMOV (io), 31 NC (io), 32 NC (io), 33 NC (io), 34 NC (io), 35 ~{NMI} (in), 36 P80/FTCI (io), 37 P81/FTIOA (io), 38 P82/FTIOB (io), 39 P83/FTIOC (io), 40 P84/FTIOD (io), 41 P85 (io), 42 P86 (io), 43 P87 (io), 44 P20/SCK3 (io), 45 P21/RXD (io), 46 P22/TXD (io), 47 NC (io), 48 NC (io), 49 NC (io), 50 NC (io), 51 P14/~{IRQ0} (io), 52 P15/~{IRQ1} (io), 53 P16/~{IRQ2} (io), 54 P17/~{IRQ3}/TRGV (io), 55 PB4/AN4 (io), 56 PB5/AN5 (io), 57 PB6/AN6 (io), 58 PB7/AN7 (io), 59 PB3/AN3 (in), 60 PB2/AN2 (in), 61 PB1/AN1 (in), 62 PB0/AN0 (in), 63 NC (in), 64 NC (in)

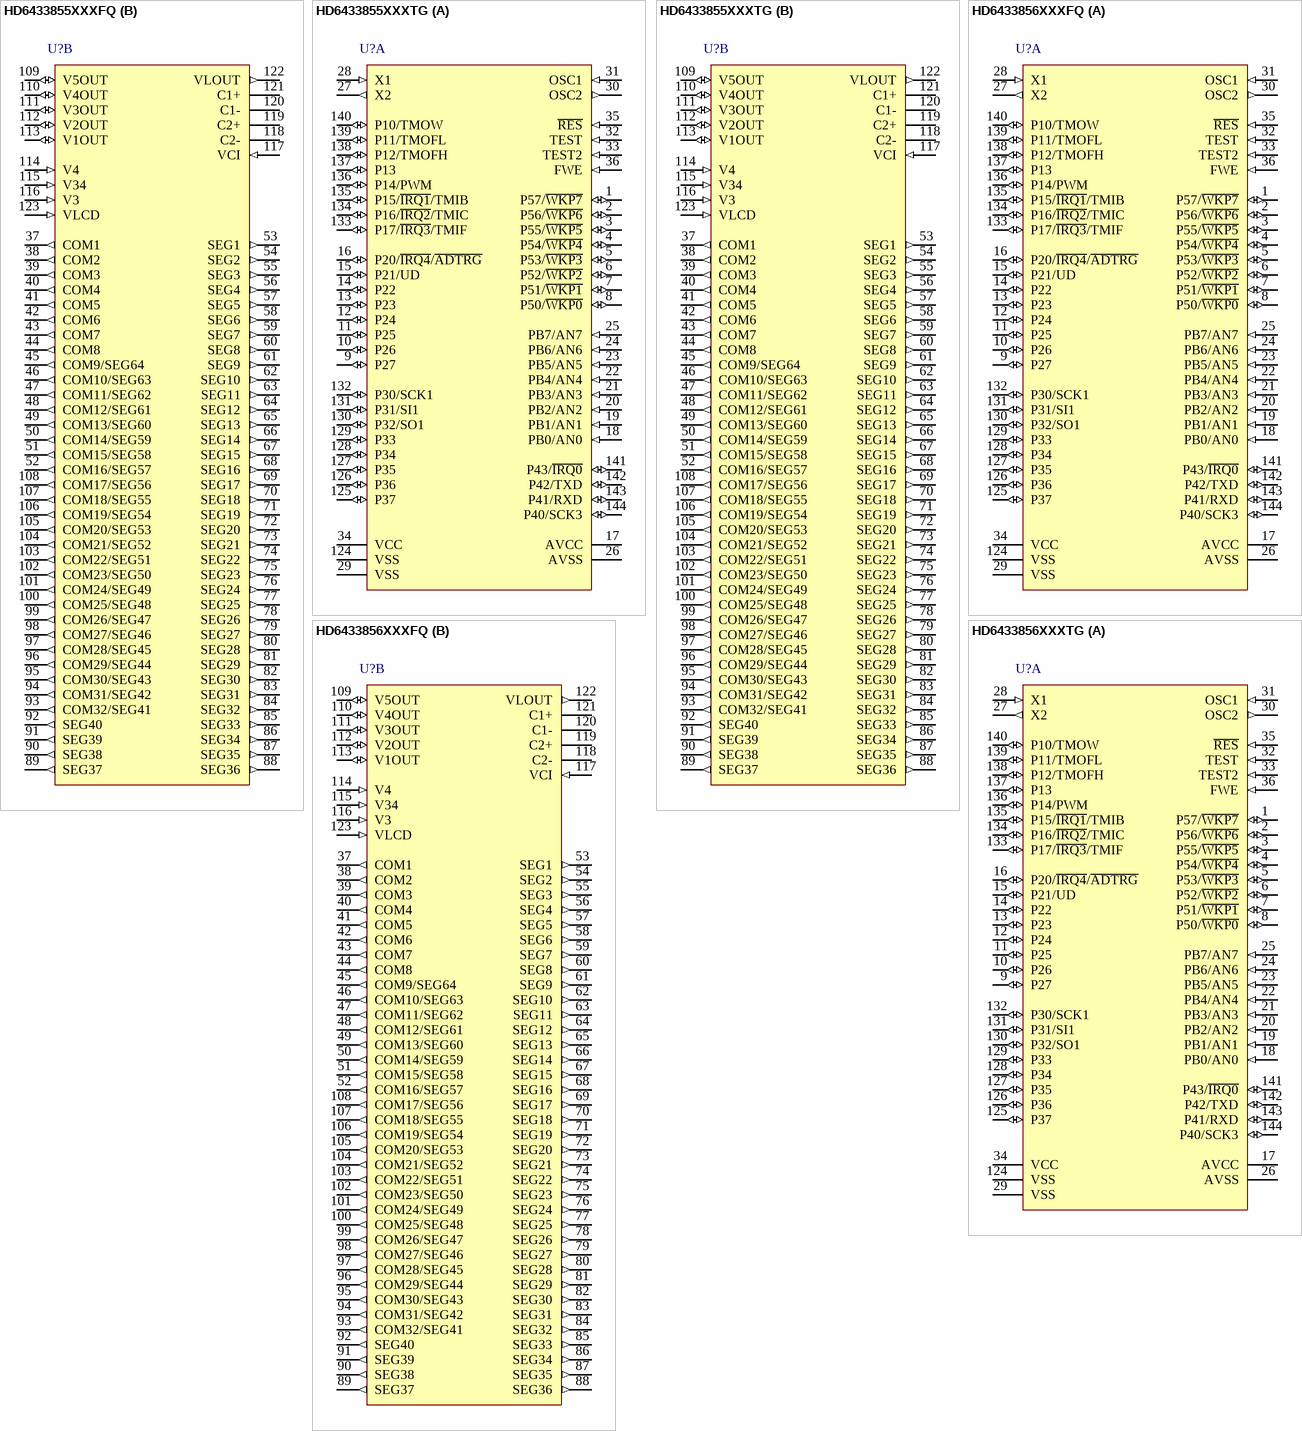
[diagram p64: symbols HD6433855XXXFQ to HD6433856XXXTG]

## HD6433855XXXFQ
designator U?
H8 Family 8-bit MCU, H8/300L Super Low Power, 40K ROM, 2K RAM, 2.5MHz, 3.0 to 5.5V, 144-Pin QFP; Published: 28-Aug-2009; DatasheetVersion: Rev.3.00, Jul-2007; PackageVersion: Sep-2005; PackageReference: PLQP0144KC-A; Publisher: Altium Limited; PackageDescription: 144-Pin Plastic Low Profile QFP, 20 x 20 x 1.45 mm Body, 0.5 mm Pitch; Code_JEITA: P-LQFP144-20x20-0.50; Code_IPC: SQFP50P2200X2200-144; ComponentLink1Description: Manufacturer Link; ComponentLink1URL: http://sg.renesas.com/fmwk.jsp?cnt=h8_family_landing.jsp&fp=/products/mpumcu/h8_family/; ComponentLink2Description: Datasheet; ComponentLink2URL: http://documentation.renesas.com/eng/products/mpumcu/rej09b0397_3857hm.pdf; ComponentLink3Description: Packaging Specification; ComponentLink3URL: http://sg.renesas.com/media/products/common_info/package/pdf/ic/code/plqp0144kc_a.pdf
footprint PLQP0144KC-A_N (Shrink QFP, 144-Leads, Body 20x20mm, Pitch 0.5mm, IPC Medium Density)
footprint PLQP0144KC-A_L (Shrink QFP, 144-Leads, Body 20x20mm, Pitch 0.5mm, IPC High Density)
footprint PLQP0144KC-A_M (Shrink QFP, 144-Leads, Body 20x20mm, Pitch 0.5mm, IPC Low Density)
part A pins: 1 P57/~{WKP7} (io), 2 P56/~{WKP6} (io), 3 P55/~{WKP5} (io), 4 P54/~{WKP4} (io), 5 P53/~{WKP3} (io), 6 P52/~{WKP2} (io), 7 P51/~{WKP1} (io), 8 P50/~{WKP0} (io), 9 P27 (io), 10 P26 (io), 11 P25 (io), 12 P24 (io), 13 P23 (io), 14 P22 (io), 15 P21/UD (io), 16 P20/~{IRQ4}/~{ADTRG} (io), 17 AVCC (power), 18 PB0/AN0 (in), 19 PB1/AN1 (in), 20 PB2/AN2 (in), 21 PB3/AN3 (in), 22 PB4/AN4 (in), 23 PB5/AN5 (in), 24 PB6/AN6 (in), 25 PB7/AN7 (in), 26 AVSS (power), 27 X2 (out), 28 X1 (in), 29 VSS (power), 30 OSC2 (out), 31 OSC1 (in), 32 TEST (in), 33 TEST2 (in), 34 VCC (power), 35 ~{RES} (in), 36 FWE (in), 124 VSS (power), 125 P37 (io), 126 P36 (io), 127 P35 (io), 128 P34 (io), 129 P33 (io), 130 P32/SO1 (io), 131 P31/SI1 (io), 132 P30/SCK1 (io), 133 P17/~{IRQ3}/TMIF (io), 134 P16/~{IRQ2}/TMIC (io), 135 P15/~{IRQ1}/TMIB (io), 136 P14/PWM (io), 137 P13 (io), 138 P12/TMOFH (io), 139 P11/TMOFL (io), 140 P10/TMOW (io), 141 P43/~{IRQ0} (io), 142 P42/TXD (io), 143 P41/RXD (io), 144 P40/SCK3 (io)
part B pins: 37 COM1 (out), 38 COM2 (out), 39 COM3 (out), 40 COM4 (out), 41 COM5 (out), 42 COM6 (out), 43 COM7 (out), 44 COM8 (out), 45 COM9/SEG64 (out), 46 COM10/SEG63 (out), 47 COM11/SEG62 (out), 48 COM12/SEG61 (out), 49 COM13/SEG60 (out), 50 COM14/SEG59 (out), 51 COM15/SEG58 (out), 52 COM16/SEG57 (out), 53 SEG1 (out), 54 SEG2 (out), 55 SEG3 (out), 56 SEG4 (out), 57 SEG5 (out), 58 SEG6 (out), 59 SEG7 (out), 60 SEG8 (out), 61 SEG9 (out), 62 SEG10 (out), 63 SEG11 (out), 64 SEG12 (out), 65 SEG13 (out), 66 SEG14 (out), 67 SEG15 (out), 68 SEG16 (out), 69 SEG17 (out), 70 SEG18 (out), 71 SEG19 (out), 72 SEG20 (out), 73 SEG21 (out), 74 SEG22 (out), 75 SEG23 (out), 76 SEG24 (out), 77 SEG25 (out), 78 SEG26 (out), 79 SEG27 (out), 80 SEG28 (out), 81 SEG29 (out), 82 SEG30 (out), 83 SEG31 (out), 84 SEG32 (out), 85 SEG33 (out), 86 SEG34 (out), 87 SEG35 (out), 88 SEG36 (out), 89 SEG37 (out), 90 SEG38 (out), 91 SEG39 (out), 92 SEG40 (out), 93 COM32/SEG41 (out), 94 COM31/SEG42 (out), 95 COM30/SEG43 (out), 96 COM29/SEG44 (out), 97 COM28/SEG45 (out), 98 COM27/SEG46 (out), 99 COM26/SEG47 (out), 100 COM25/SEG48 (out), 101 COM24/SEG49 (out), 102 COM23/SEG50 (out), 103 COM22/SEG51 (out), 104 COM21/SEG52 (out), 105 COM20/SEG53 (out), 106 COM19/SEG54 (out), 107 COM18/SEG55 (out), 108 COM17/SEG56 (out), 109 V5OUT (io), 110 V4OUT (io), 111 V3OUT (io), 112 V2OUT (io), 113 V1OUT (io), 114 V4 (in), 115 V34 (in), 116 V3 (in), 117 VCI (in), 118 C2-, 119 C2+, 120 C1-, 121 C1+, 122 VLOUT (out), 123 VLCD (in)

## HD6433855XXXTG
designator U?
H8 Family 8-bit MCU, H8/300L Super Low Power, 40K ROM, 2K RAM, 2.5MHz, 3.0 to 5.5V, 144-Pin QFP; Published: 28-Aug-2009; DatasheetVersion: Rev.3.00, Jul-2007; PackageVersion: Sep-2005; PackageReference: PTQP0144LC-A; Publisher: Altium Limited; PackageDescription: 144-Pin Plastic Thin Quad Flat Pack, 16 x 16 mm Body, 0.4 mm Pitch; Code_JEITA: P-TQFP144-16x16-0.40; ComponentLink1Description: Manufacturer Link; ComponentLink1URL: http://sg.renesas.com/fmwk.jsp?cnt=h8_family_landing.jsp&fp=/products/mpumcu/h8_family/; ComponentLink2Description: Datasheet; ComponentLink2URL: http://documentation.renesas.com/eng/products/mpumcu/rej09b0397_3857hm.pdf; ComponentLink3Description: Packaging Specification; ComponentLink3URL: http://sg.renesas.com/media/products/common_info/package/pdf/ic/code/ptqp0144lc_a.pdf
footprint PTQP0144LC-A_N (Thin QFP, 144-Leads, Body 16x16mm, Pitch 0.4mm, IPC Medium Density)
footprint PTQP0144LC-A_L (Thin QFP, 144-Leads, Body 16x16mm, Pitch 0.4mm, IPC High Density)
footprint PTQP0144LC-A_M (Thin QFP, 144-Leads, Body 16x16mm, Pitch 0.4mm, IPC Low Density)
part A pins: 1 P57/~{WKP7} (io), 2 P56/~{WKP6} (io), 3 P55/~{WKP5} (io), 4 P54/~{WKP4} (io), 5 P53/~{WKP3} (io), 6 P52/~{WKP2} (io), 7 P51/~{WKP1} (io), 8 P50/~{WKP0} (io), 9 P27 (io), 10 P26 (io), 11 P25 (io), 12 P24 (io), 13 P23 (io), 14 P22 (io), 15 P21/UD (io), 16 P20/~{IRQ4}/~{ADTRG} (io), 17 AVCC (power), 18 PB0/AN0 (in), 19 PB1/AN1 (in), 20 PB2/AN2 (in), 21 PB3/AN3 (in), 22 PB4/AN4 (in), 23 PB5/AN5 (in), 24 PB6/AN6 (in), 25 PB7/AN7 (in), 26 AVSS (power), 27 X2 (out), 28 X1 (in), 29 VSS (power), 30 OSC2 (out), 31 OSC1 (in), 32 TEST (in), 33 TEST2 (in), 34 VCC (power), 35 ~{RES} (in), 36 FWE (in), 124 VSS (power), 125 P37 (io), 126 P36 (io), 127 P35 (io), 128 P34 (io), 129 P33 (io), 130 P32/SO1 (io), 131 P31/SI1 (io), 132 P30/SCK1 (io), 133 P17/~{IRQ3}/TMIF (io), 134 P16/~{IRQ2}/TMIC (io), 135 P15/~{IRQ1}/TMIB (io), 136 P14/PWM (io), 137 P13 (io), 138 P12/TMOFH (io), 139 P11/TMOFL (io), 140 P10/TMOW (io), 141 P43/~{IRQ0} (io), 142 P42/TXD (io), 143 P41/RXD (io), 144 P40/SCK3 (io)
part B pins: 37 COM1 (out), 38 COM2 (out), 39 COM3 (out), 40 COM4 (out), 41 COM5 (out), 42 COM6 (out), 43 COM7 (out), 44 COM8 (out), 45 COM9/SEG64 (out), 46 COM10/SEG63 (out), 47 COM11/SEG62 (out), 48 COM12/SEG61 (out), 49 COM13/SEG60 (out), 50 COM14/SEG59 (out), 51 COM15/SEG58 (out), 52 COM16/SEG57 (out), 53 SEG1 (out), 54 SEG2 (out), 55 SEG3 (out), 56 SEG4 (out), 57 SEG5 (out), 58 SEG6 (out), 59 SEG7 (out), 60 SEG8 (out), 61 SEG9 (out), 62 SEG10 (out), 63 SEG11 (out), 64 SEG12 (out), 65 SEG13 (out), 66 SEG14 (out), 67 SEG15 (out), 68 SEG16 (out), 69 SEG17 (out), 70 SEG18 (out), 71 SEG19 (out), 72 SEG20 (out), 73 SEG21 (out), 74 SEG22 (out), 75 SEG23 (out), 76 SEG24 (out), 77 SEG25 (out), 78 SEG26 (out), 79 SEG27 (out), 80 SEG28 (out), 81 SEG29 (out), 82 SEG30 (out), 83 SEG31 (out), 84 SEG32 (out), 85 SEG33 (out), 86 SEG34 (out), 87 SEG35 (out), 88 SEG36 (out), 89 SEG37 (out), 90 SEG38 (out), 91 SEG39 (out), 92 SEG40 (out), 93 COM32/SEG41 (out), 94 COM31/SEG42 (out), 95 COM30/SEG43 (out), 96 COM29/SEG44 (out), 97 COM28/SEG45 (out), 98 COM27/SEG46 (out), 99 COM26/SEG47 (out), 100 COM25/SEG48 (out), 101 COM24/SEG49 (out), 102 COM23/SEG50 (out), 103 COM22/SEG51 (out), 104 COM21/SEG52 (out), 105 COM20/SEG53 (out), 106 COM19/SEG54 (out), 107 COM18/SEG55 (out), 108 COM17/SEG56 (out), 109 V5OUT (io), 110 V4OUT (io), 111 V3OUT (io), 112 V2OUT (io), 113 V1OUT (io), 114 V4 (in), 115 V34 (in), 116 V3 (in), 117 VCI (in), 118 C2-, 119 C2+, 120 C1-, 121 C1+, 122 VLOUT (out), 123 VLCD (in)

## HD6433856XXXFQ
designator U?
H8 Family 8-bit MCU, H8/300L Super Low Power, 48K ROM, 2K RAM, 2.5MHz, 3.0 to 5.5V, 144-Pin QFP; Published: 28-Aug-2009; DatasheetVersion: Rev.3.00, Jul-2007; PackageVersion: Sep-2005; PackageReference: PLQP0144KC-A; Publisher: Altium Limited; PackageDescription: 144-Pin Plastic Low Profile QFP, 20 x 20 x 1.45 mm Body, 0.5 mm Pitch; Code_JEITA: P-LQFP144-20x20-0.50; Code_IPC: SQFP50P2200X2200-144; ComponentLink1Description: Manufacturer Link; ComponentLink1URL: http://sg.renesas.com/fmwk.jsp?cnt=h8_family_landing.jsp&fp=/products/mpumcu/h8_family/; ComponentLink2Description: Datasheet; ComponentLink2URL: http://documentation.renesas.com/eng/products/mpumcu/rej09b0397_3857hm.pdf; ComponentLink3Description: Packaging Specification; ComponentLink3URL: http://sg.renesas.com/media/products/common_info/package/pdf/ic/code/plqp0144kc_a.pdf
footprint PLQP0144KC-A_N (Shrink QFP, 144-Leads, Body 20x20mm, Pitch 0.5mm, IPC Medium Density)
footprint PLQP0144KC-A_L (Shrink QFP, 144-Leads, Body 20x20mm, Pitch 0.5mm, IPC High Density)
footprint PLQP0144KC-A_M (Shrink QFP, 144-Leads, Body 20x20mm, Pitch 0.5mm, IPC Low Density)
part A pins: 1 P57/~{WKP7} (io), 2 P56/~{WKP6} (io), 3 P55/~{WKP5} (io), 4 P54/~{WKP4} (io), 5 P53/~{WKP3} (io), 6 P52/~{WKP2} (io), 7 P51/~{WKP1} (io), 8 P50/~{WKP0} (io), 9 P27 (io), 10 P26 (io), 11 P25 (io), 12 P24 (io), 13 P23 (io), 14 P22 (io), 15 P21/UD (io), 16 P20/~{IRQ4}/~{ADTRG} (io), 17 AVCC (power), 18 PB0/AN0 (in), 19 PB1/AN1 (in), 20 PB2/AN2 (in), 21 PB3/AN3 (in), 22 PB4/AN4 (in), 23 PB5/AN5 (in), 24 PB6/AN6 (in), 25 PB7/AN7 (in), 26 AVSS (power), 27 X2 (out), 28 X1 (in), 29 VSS (power), 30 OSC2 (out), 31 OSC1 (in), 32 TEST (in), 33 TEST2 (in), 34 VCC (power), 35 ~{RES} (in), 36 FWE (in), 124 VSS (power), 125 P37 (io), 126 P36 (io), 127 P35 (io), 128 P34 (io), 129 P33 (io), 130 P32/SO1 (io), 131 P31/SI1 (io), 132 P30/SCK1 (io), 133 P17/~{IRQ3}/TMIF (io), 134 P16/~{IRQ2}/TMIC (io), 135 P15/~{IRQ1}/TMIB (io), 136 P14/PWM (io), 137 P13 (io), 138 P12/TMOFH (io), 139 P11/TMOFL (io), 140 P10/TMOW (io), 141 P43/~{IRQ0} (io), 142 P42/TXD (io), 143 P41/RXD (io), 144 P40/SCK3 (io)
part B pins: 37 COM1 (out), 38 COM2 (out), 39 COM3 (out), 40 COM4 (out), 41 COM5 (out), 42 COM6 (out), 43 COM7 (out), 44 COM8 (out), 45 COM9/SEG64 (out), 46 COM10/SEG63 (out), 47 COM11/SEG62 (out), 48 COM12/SEG61 (out), 49 COM13/SEG60 (out), 50 COM14/SEG59 (out), 51 COM15/SEG58 (out), 52 COM16/SEG57 (out), 53 SEG1 (out), 54 SEG2 (out), 55 SEG3 (out), 56 SEG4 (out), 57 SEG5 (out), 58 SEG6 (out), 59 SEG7 (out), 60 SEG8 (out), 61 SEG9 (out), 62 SEG10 (out), 63 SEG11 (out), 64 SEG12 (out), 65 SEG13 (out), 66 SEG14 (out), 67 SEG15 (out), 68 SEG16 (out), 69 SEG17 (out), 70 SEG18 (out), 71 SEG19 (out), 72 SEG20 (out), 73 SEG21 (out), 74 SEG22 (out), 75 SEG23 (out), 76 SEG24 (out), 77 SEG25 (out), 78 SEG26 (out), 79 SEG27 (out), 80 SEG28 (out), 81 SEG29 (out), 82 SEG30 (out), 83 SEG31 (out), 84 SEG32 (out), 85 SEG33 (out), 86 SEG34 (out), 87 SEG35 (out), 88 SEG36 (out), 89 SEG37 (out), 90 SEG38 (out), 91 SEG39 (out), 92 SEG40 (out), 93 COM32/SEG41 (out), 94 COM31/SEG42 (out), 95 COM30/SEG43 (out), 96 COM29/SEG44 (out), 97 COM28/SEG45 (out), 98 COM27/SEG46 (out), 99 COM26/SEG47 (out), 100 COM25/SEG48 (out), 101 COM24/SEG49 (out), 102 COM23/SEG50 (out), 103 COM22/SEG51 (out), 104 COM21/SEG52 (out), 105 COM20/SEG53 (out), 106 COM19/SEG54 (out), 107 COM18/SEG55 (out), 108 COM17/SEG56 (out), 109 V5OUT (io), 110 V4OUT (io), 111 V3OUT (io), 112 V2OUT (io), 113 V1OUT (io), 114 V4 (in), 115 V34 (in), 116 V3 (in), 117 VCI (in), 118 C2-, 119 C2+, 120 C1-, 121 C1+, 122 VLOUT (out), 123 VLCD (in)

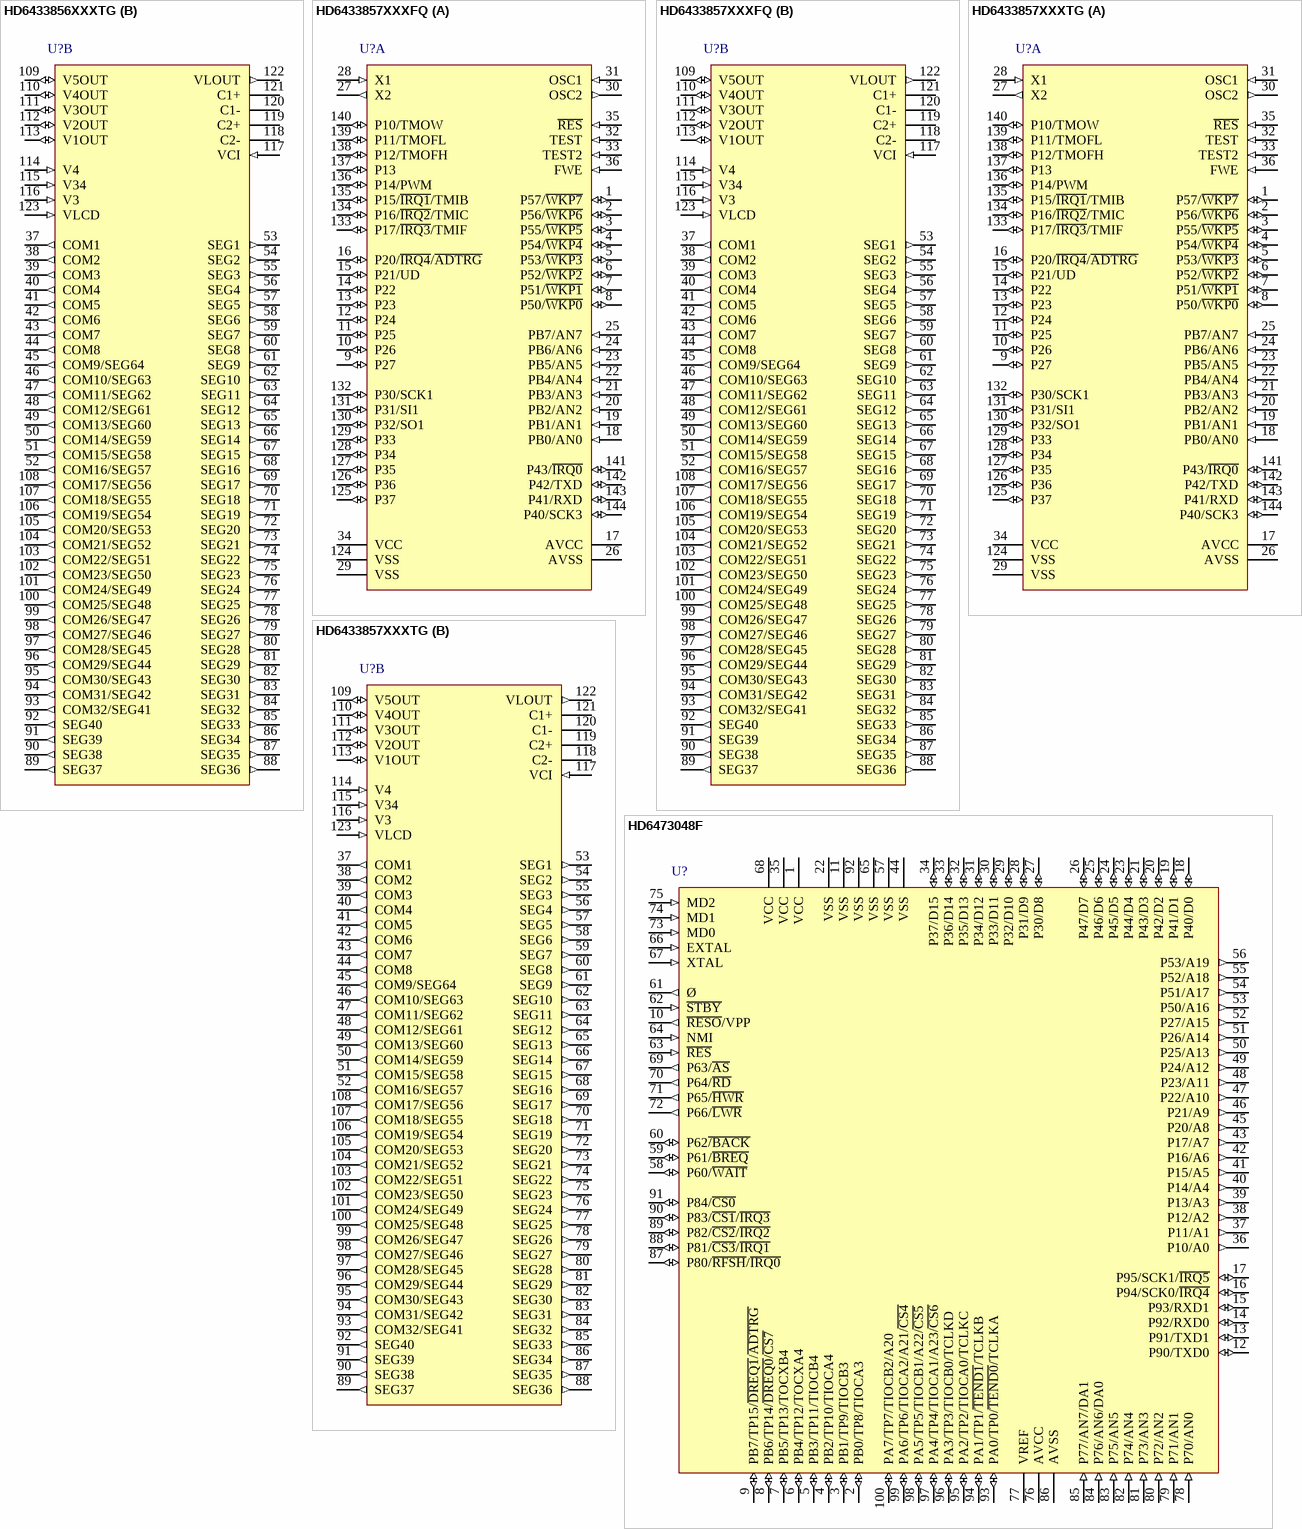
[diagram p65: symbols HD6433856XXXTG to HD6473048F]

## HD6433856XXXTG
designator U?
H8 Family 8-bit MCU, H8/300L Super Low Power, 48K ROM, 2K RAM, 2.5MHz, 3.0 to 5.5V, 144-Pin QFP; Published: 28-Aug-2009; DatasheetVersion: Rev.3.00, Jul-2007; PackageVersion: Sep-2005; PackageReference: PTQP0144LC-A; Publisher: Altium Limited; PackageDescription: 144-Pin Plastic Thin Quad Flat Pack, 16 x 16 mm Body, 0.4 mm Pitch; Code_JEITA: P-TQFP144-16x16-0.40; ComponentLink1Description: Manufacturer Link; ComponentLink1URL: http://sg.renesas.com/fmwk.jsp?cnt=h8_family_landing.jsp&fp=/products/mpumcu/h8_family/; ComponentLink2Description: Datasheet; ComponentLink2URL: http://documentation.renesas.com/eng/products/mpumcu/rej09b0397_3857hm.pdf; ComponentLink3Description: Packaging Specification; ComponentLink3URL: http://sg.renesas.com/media/products/common_info/package/pdf/ic/code/ptqp0144lc_a.pdf
footprint PTQP0144LC-A_N (Thin QFP, 144-Leads, Body 16x16mm, Pitch 0.4mm, IPC Medium Density)
footprint PTQP0144LC-A_L (Thin QFP, 144-Leads, Body 16x16mm, Pitch 0.4mm, IPC High Density)
footprint PTQP0144LC-A_M (Thin QFP, 144-Leads, Body 16x16mm, Pitch 0.4mm, IPC Low Density)
part A pins: 1 P57/~{WKP7} (io), 2 P56/~{WKP6} (io), 3 P55/~{WKP5} (io), 4 P54/~{WKP4} (io), 5 P53/~{WKP3} (io), 6 P52/~{WKP2} (io), 7 P51/~{WKP1} (io), 8 P50/~{WKP0} (io), 9 P27 (io), 10 P26 (io), 11 P25 (io), 12 P24 (io), 13 P23 (io), 14 P22 (io), 15 P21/UD (io), 16 P20/~{IRQ4}/~{ADTRG} (io), 17 AVCC (power), 18 PB0/AN0 (in), 19 PB1/AN1 (in), 20 PB2/AN2 (in), 21 PB3/AN3 (in), 22 PB4/AN4 (in), 23 PB5/AN5 (in), 24 PB6/AN6 (in), 25 PB7/AN7 (in), 26 AVSS (power), 27 X2 (out), 28 X1 (in), 29 VSS (power), 30 OSC2 (out), 31 OSC1 (in), 32 TEST (in), 33 TEST2 (in), 34 VCC (power), 35 ~{RES} (in), 36 FWE (in), 124 VSS (power), 125 P37 (io), 126 P36 (io), 127 P35 (io), 128 P34 (io), 129 P33 (io), 130 P32/SO1 (io), 131 P31/SI1 (io), 132 P30/SCK1 (io), 133 P17/~{IRQ3}/TMIF (io), 134 P16/~{IRQ2}/TMIC (io), 135 P15/~{IRQ1}/TMIB (io), 136 P14/PWM (io), 137 P13 (io), 138 P12/TMOFH (io), 139 P11/TMOFL (io), 140 P10/TMOW (io), 141 P43/~{IRQ0} (io), 142 P42/TXD (io), 143 P41/RXD (io), 144 P40/SCK3 (io)
part B pins: 37 COM1 (out), 38 COM2 (out), 39 COM3 (out), 40 COM4 (out), 41 COM5 (out), 42 COM6 (out), 43 COM7 (out), 44 COM8 (out), 45 COM9/SEG64 (out), 46 COM10/SEG63 (out), 47 COM11/SEG62 (out), 48 COM12/SEG61 (out), 49 COM13/SEG60 (out), 50 COM14/SEG59 (out), 51 COM15/SEG58 (out), 52 COM16/SEG57 (out), 53 SEG1 (out), 54 SEG2 (out), 55 SEG3 (out), 56 SEG4 (out), 57 SEG5 (out), 58 SEG6 (out), 59 SEG7 (out), 60 SEG8 (out), 61 SEG9 (out), 62 SEG10 (out), 63 SEG11 (out), 64 SEG12 (out), 65 SEG13 (out), 66 SEG14 (out), 67 SEG15 (out), 68 SEG16 (out), 69 SEG17 (out), 70 SEG18 (out), 71 SEG19 (out), 72 SEG20 (out), 73 SEG21 (out), 74 SEG22 (out), 75 SEG23 (out), 76 SEG24 (out), 77 SEG25 (out), 78 SEG26 (out), 79 SEG27 (out), 80 SEG28 (out), 81 SEG29 (out), 82 SEG30 (out), 83 SEG31 (out), 84 SEG32 (out), 85 SEG33 (out), 86 SEG34 (out), 87 SEG35 (out), 88 SEG36 (out), 89 SEG37 (out), 90 SEG38 (out), 91 SEG39 (out), 92 SEG40 (out), 93 COM32/SEG41 (out), 94 COM31/SEG42 (out), 95 COM30/SEG43 (out), 96 COM29/SEG44 (out), 97 COM28/SEG45 (out), 98 COM27/SEG46 (out), 99 COM26/SEG47 (out), 100 COM25/SEG48 (out), 101 COM24/SEG49 (out), 102 COM23/SEG50 (out), 103 COM22/SEG51 (out), 104 COM21/SEG52 (out), 105 COM20/SEG53 (out), 106 COM19/SEG54 (out), 107 COM18/SEG55 (out), 108 COM17/SEG56 (out), 109 V5OUT (io), 110 V4OUT (io), 111 V3OUT (io), 112 V2OUT (io), 113 V1OUT (io), 114 V4 (in), 115 V34 (in), 116 V3 (in), 117 VCI (in), 118 C2-, 119 C2+, 120 C1-, 121 C1+, 122 VLOUT (out), 123 VLCD (in)